# Altium footprint library SOP65P640X120-20N.PcbLib: 1 footprints
Each footprint in its own frame and in the unit in brackets; x right, y up, seen from the top. Pads: shape width x height; smd on the part's side, far side on the other; paste and mask are expansions set on the pad; w line width, h text height; cw(c..) or ccw(c..) is an arc to the next point about the centre after c.
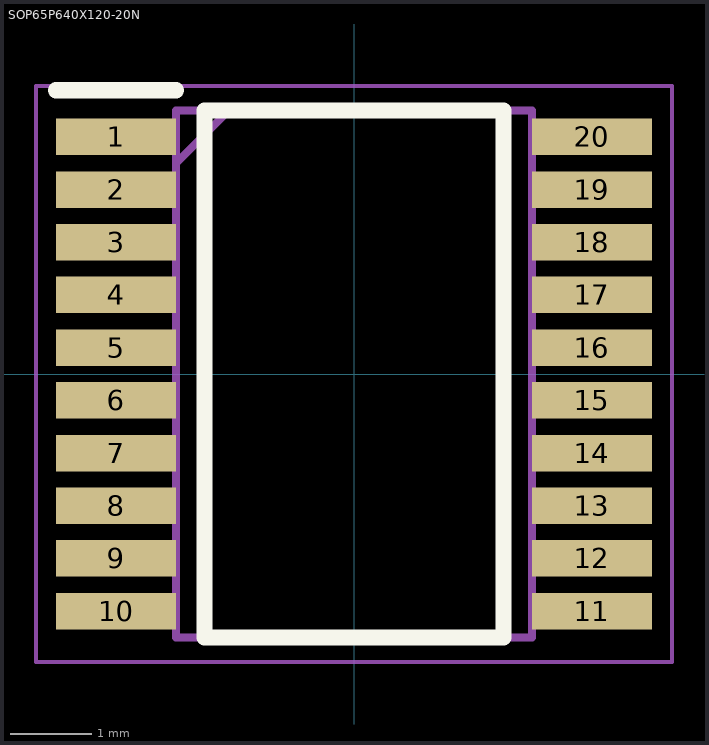
[diagram p0: the footprint, top view; thin cyan lines are the x and y axes]

## SOP65P640X120-20N [mm]
pads (20):
  rect 1.48x0.45 smd: 1(-2.935,2.925) 2(-2.935,2.275) 3(-2.935,1.625) 4(-2.935,0.975) 5(-2.935,0.325) 6(-2.935,-0.325) 7(-2.935,-0.975) 8(-2.935,-1.625) 9(-2.935,-2.275) 10(-2.935,-2.925) 11(2.935,-2.925) 12(2.935,-2.275) 13(2.935,-1.625) 14(2.935,-0.975) 15(2.935,-0.325) 16(2.935,0.325) 17(2.935,0.975) 18(2.935,1.625) 19(2.935,2.275) 20(2.935,2.925)
Top Overlay:
  lines w0.2: -3.675,3.5 -2.195,3.5 ; -1.845,-3.25 1.845,-3.25 1.845,3.25 -1.845,3.25 -1.845,-3.25
Mechanical 15:
  lines w0.1: -2.195,2.6 -1.545,3.25 ; -2.195,-3.25 2.195,-3.25 2.195,3.25 -2.195,3.25 -2.195,-3.25
Mechanical 20:
  lines w0.05: -3.925,-3.55 3.925,-3.55 3.925,3.55 -3.925,3.55 -3.925,-3.55